# EAGLE library part AOZ6663DI (library IC)
POWER IC EZBUCK Manufacturer's datasheet <http://aosmd.com/res/data_sheets/AOZ6663DI.pdf>
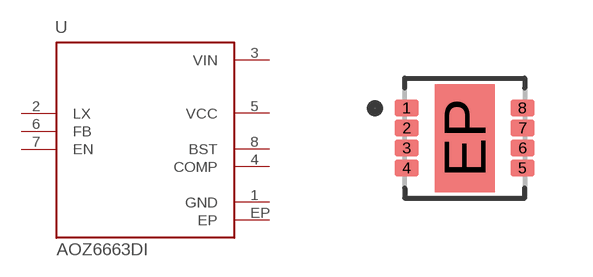
[diagram p22: symbol with the pads of DFN8-3X3; footprint DFN8-3X3]

Designator prefix U

## AOZ6663DI (CREATED_BY: PCBLayout.com; DIGIKEY_PARTNO: 785-1855-6-ND; MANUFACTURER: Alpha & Omega Semiconductor Inc.; MPN: AOZ6663DI; PACKAGE: DFN8_3X3)  [DFN8-3X3]
1  GND  pwr
2  LX  in
3  VIN  pwr
4  COMP  pas
5  VCC  out
6  FB  in
7  EN  in
8  BST  pas
EP  EP  pwr

## Footprint DFN8-3X3 (pad centres in mm)
DD Package 8-Lead Plastic DFN (3mm × 3mm) Source: http://cds.linear.com/docs/Datasheet/623012fb.pdf
smd 0.6 x 0.4: 1 -1.45,0.75; 2 -1.45,0.25; 3 -1.45,-0.25; 4 -1.45,-0.75; 5 1.45,-0.75; 6 1.45,-0.25; 7 1.45,0.25; 8 1.45,0.75
smd 1.5 x 2.7: EP 0,0